# Altium footprint library Fuses_sockets_PCB.PcbLib: 1 footprints
Each footprint in its own frame and in the unit in brackets; x right, y up, seen from the top. Pads: shape width x height; smd on the part's side, far side on the other; paste and mask are expansions set on the pad; w line width, h text height; cw(c..) or ccw(c..) is an arc to the next point about the centre after c.
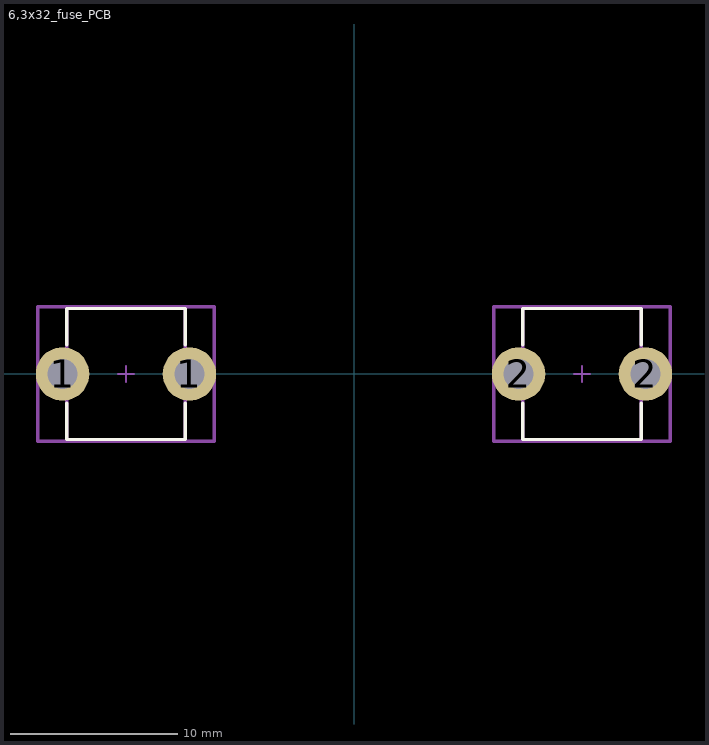
[diagram p0: the footprint, top view; thin cyan lines are the x and y axes]

## 6,3x32_fuse_PCB [mm]
pads (4):
  round 3.2 hole 1.8 paste-2539.97 mask+0: 1(-17.453,0) 1(-9.852,0) 2(9.852,0) 2(17.453,0)
Top Overlay:
  lines w0.2: -17.203,-1.75 -17.203,-3.925 -10.102,-3.925 -10.102,-1.75 ; -17.203,1.75 -17.203,3.925 -10.102,3.925 -10.102,1.75 ; 10.102,-1.75 10.102,-3.925 17.203,-3.925 17.203,-1.75 ; 10.102,1.75 10.102,3.925 17.203,3.925 17.203,1.75
Top Assembly:
  lines w0.2: -18.928,-4.025 -18.928,4.025 -8.377,4.025 -8.377,-4.025 -18.928,-4.025 ; 8.377,-4.025 8.377,4.025 18.928,4.025 18.928,-4.025 8.377,-4.025
  text ".Designator" at -13.653,0.188 h1
  text ".Designator" at 13.652,0.188 h1
Top 3D Body:
  lines w0.2: -17.203,-3.925 -17.203,3.925 -10.102,3.925 -10.102,-3.925 -17.203,-3.925 ; 10.102,-3.925 10.102,3.925 17.203,3.925 17.203,-3.925 10.102,-3.925
Top Courtyard:
  lines w0.2: -18.928,-4.025 -18.928,4.025 -8.377,4.025 -8.377,-4.025 -18.928,-4.025 ; 8.377,-4.025 8.377,4.025 18.928,4.025 18.928,-4.025 8.377,-4.025
Top Component Center:
  lines w0.1: -14.152,0 -13.153,0 ; -13.652,-0.5 -13.652,0.5 ; 13.153,0 14.152,0 ; 13.652,-0.5 13.652,0.5
3D body "Fuse_Schurter_Inc_8040_0001_eec.STEP": height 10.2, standoff -3.7, extent -17.766,-4.445 -9.666,4.328
3D body "Fuse_Schurter_Inc_8040_0001_eec.STEP": height 0.25, standoff 0, extent 8.377,-4.025 18.928,4.025